# EAGLE library part 5-1462037-8 (library SamacSys_Parts)
Relay PCB DPDT 2C/O 5VDC 2A Source: Datasheet <http://uk.rs-online.com/web/p/products/1640846>
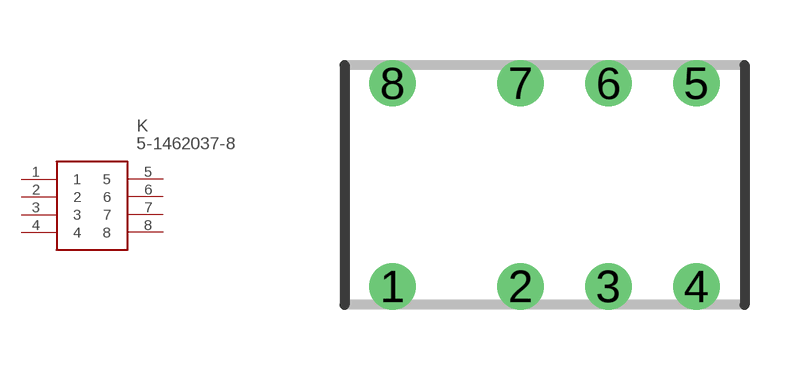
[diagram p0: symbol with the pads of IM2-T-RELAY; footprint IM2-T-RELAY]

Designator prefix K

## 5-1462037-8 (Allied_Number: 70287968; Description: Relay PCB DPDT 2C/O 5VDC 2A; Height: mm; Manufacturer_Name: TE Connectivity; Manufacturer_Part_Number: 5-1462037-8; RS_Part_Number: 1640846)  [IM2-T-RELAY]
1  1
2  2
3  3
4  4
5  5
6  6
7  7
8  8

## Footprint IM2-T-RELAY (pad centres in mm)
IM2-T-Relay
drill 0.65 pad 1.15: 1 -3.8,-2.54; 2 -0.6,-2.54; 3 1.6,-2.54; 4 3.8,-2.54; 5 3.8,2.54; 6 1.6,2.54; 7 -0.6,2.54; 8 -3.8,2.54